# Altium footprint library sinking-clock.PcbLib: 24 footprints (part 1 of 2)
Each footprint in its own frame and in the unit in brackets; x right, y up, seen from the top. Pads: shape width x height; smd on the part's side, far side on the other; paste and mask are expansions set on the pad; w line width, h text height; cw(c..) or ccw(c..) is an arc to the next point about the centre after c.
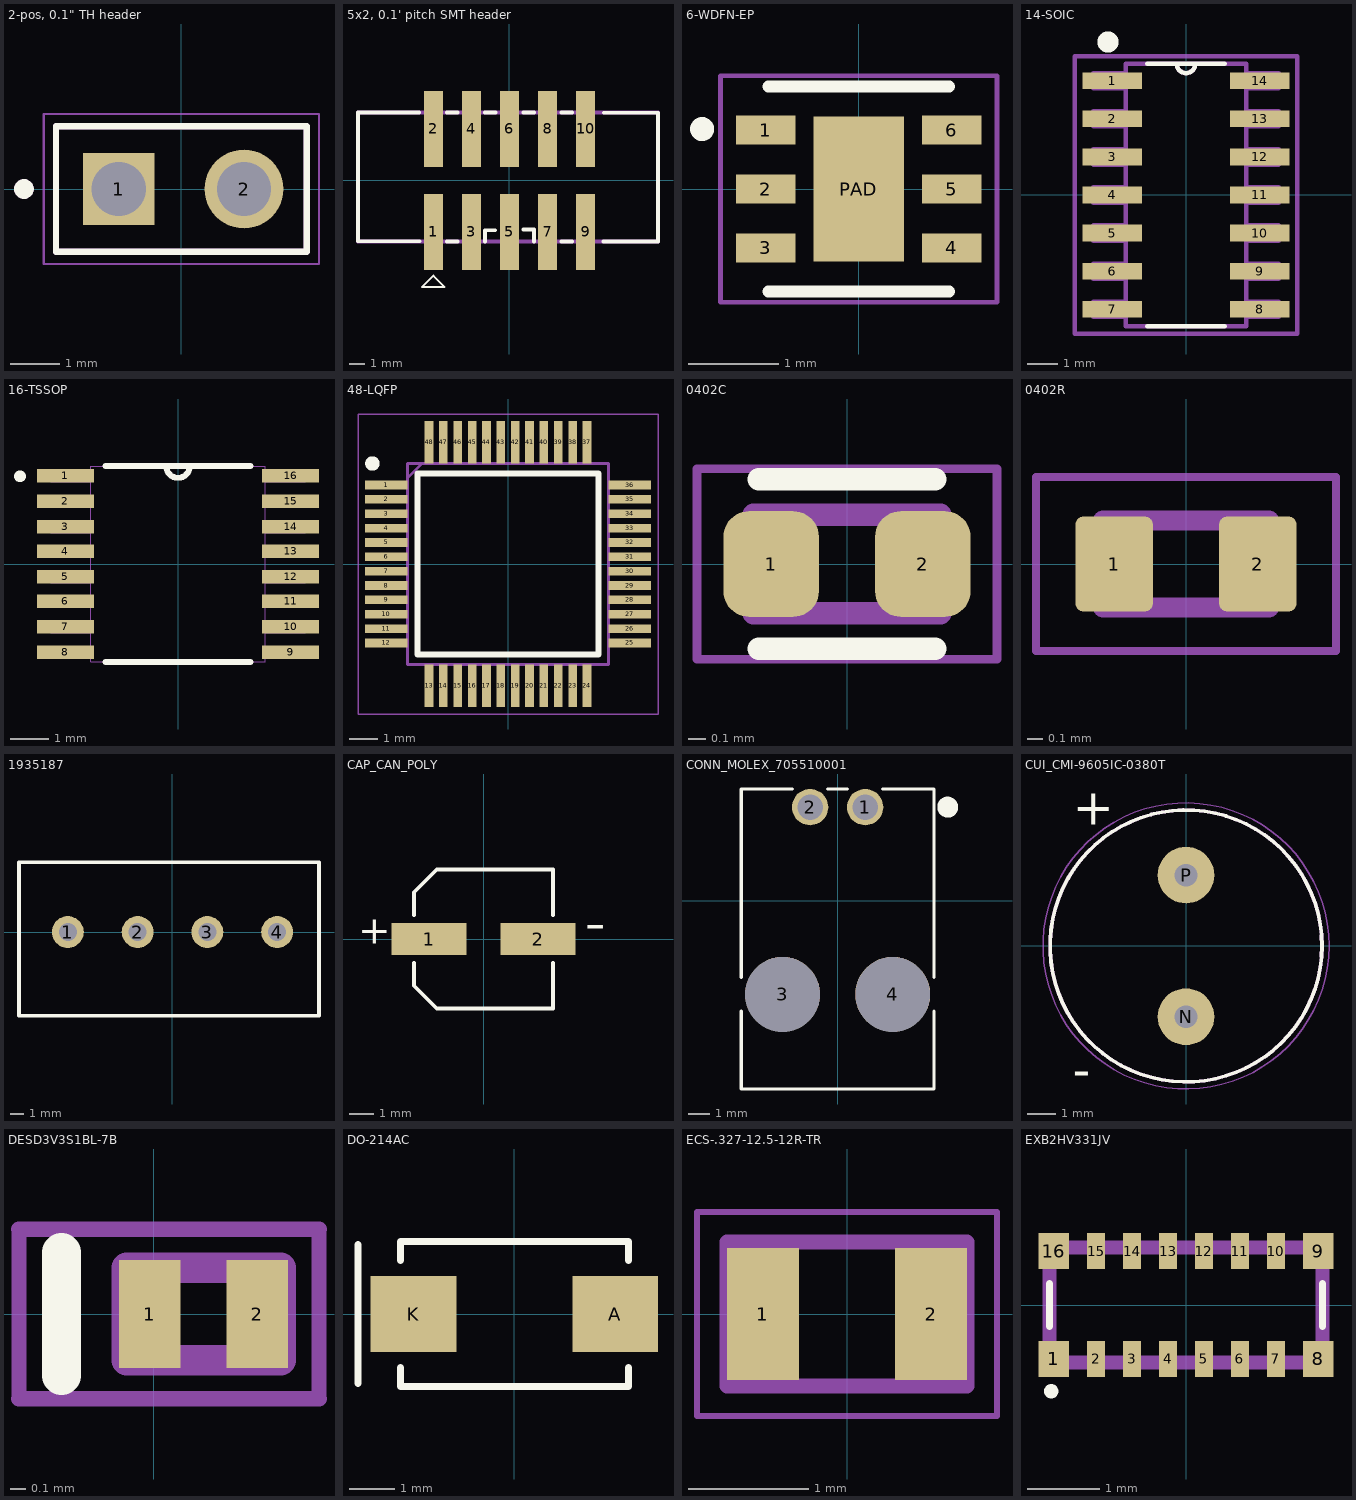
[diagram p0: the footprints below, top view; thin cyan lines are the x and y axes]

## 2-pos, 0.1" TH header [mm]
pads (2):
  rect 1.45x1.45 / inner round 1.45 / far side rect 1.45x1.45 hole 1.1: 1(-1.27,0)
  round 1.6 hole 1.1: 2(1.27,0)
Top Overlay:
  circle w0.2: c-3.19,0 r0.1
  lines w0.127: -2.54,-1.27 -2.54,1.27 2.54,1.27 2.54,-1.27 -2.54,-1.27
Mechanical 13:
  circle w0.2: c-3.19,0 r0.1
  lines w0.127: -2.54,-1.27 -2.54,1.27 2.54,1.27 2.54,-1.27 -2.54,-1.27
Mechanical 15:
  lines w0.05: -2.79,-1.52 -2.79,1.52 2.79,1.52 2.79,-1.52 -2.79,-1.52
3D body "61300211121.stp": height 8.57, standoff -2.97, extent -2.57,-1.26 2.51,1.28

## 5x2, 0.1' pitch SMT header [mil] "CONN HEADER SMD 10POS 2.54MM"
pads (10):
  rect 50x200 smd: 1(-200,-135) 2(-200,135) 3(-100,-135) 4(-100,135) 5(0,-135) 6(0,135) 7(100,-135) 8(100,135) 9(200,-135) 10(200,135)
Top Overlay:
  lines w5: -230,-280 -200,-250 -170,-280 -230,-280
  lines w10: -237,178 -397.64,178 -397.64,-159.53 -236,-159.53 ; -164,-160 -136,-160 ; -164,178 -136,178 ; -64,-160 -64,-131 -38,-131 ; -64,178 -36,178 ; 36,-129 64,-129 64,-160 ; 36,178 64,178 ; 136,-160 164,-160 ; 136,178 164,178 ; 247,-160.28 389.76,-160.28 389.76,177.7 248,177.7
Mechanical 1:
  lines w10: -397.64,-160 389.76,-160 389.76,178 -397.64,178 -397.64,-160
3D body "72454-010LF v2.step": height 495.73, standoff 0.73, extent -396.3,-164.63 393.7,180.37

## 6-WDFN-EP [mm]
pads (7):
  rect 0.66x0.32 smd mask+0.038: 1(-1.025,0.65) 2(-1.025,0) 3(-1.025,-0.65) 4(1.025,-0.65) 5(1.025,0) 6(1.025,0.65)
  rect 1x1.6 smd paste-2 mask+0.038: PAD(0,0)
Top Overlay:
  circle w0.152: c-1.727,0.66 r0.056
  lines w0.127: -1,-1.13 1,-1.13 ; -1,1.13 1,1.13
Top Paste:
  region: 0.316,-0.506 -0.316,-0.506 -0.316,0.506 0.316,0.506
Mechanical 15:
  lines w0.05: -1.524,-1.25 -1.524,1.25 1.524,1.25 1.524,-1.25 -1.524,-1.25
3D body "TVS1400DRVR.step": height 0.8, standoff 0, extent -1,-1 1,1

## 14-SOIC [mil]
pads (14):
  rect 78x22 smd: 1(-97,150) 2(-97,100) 3(-97,50) 4(-97,0) 5(-97,-50) 6(-97,-100) 7(-97,-150) 8(97,-150) 9(97,-100) 10(97,-50) 11(97,0) 12(97,50) 13(97,100) 14(97,150)
Top Overlay:
  circle w20: c-102.36,200.79 r3.94
  lines w6: -51,-172 51,-172 ; -51,172 51,172 ; -12,172 ccw(c0,172) 12,172
Mechanical 13:
  lines w6: -12,172 ccw(c0,172) 12,172 ; -122,-160 -122,-140 -79,-140 -79,-160 -122,-160 ; -122,-110 -122,-90 -79,-90 -79,-110 -122,-110 ; -122,-60 -122,-40 -79,-40 -79,-60 -122,-60 ; -122,-10 -122,10 -79,10 -79,-10 -122,-10 ; -122,40 -122,60 -79,60 -79,40 -122,40 ; -122,90 -122,110 -79,110 -79,90 -122,90 ; -122,140 -122,160 -79,160 -79,140 -122,140 ; -79,-172 79,-172 79,172 -79,172 -79,-172 ; 79,-160 79,-140 122,-140 122,-160 79,-160 ; 79,-110 79,-90 122,-90 122,-110 79,-110 ; 79,-60 79,-40 122,-40 122,-60 79,-60 ; 79,-10 79,10 122,10 122,-10 79,-10 ; 79,40 79,60 122,60 122,40 79,40 ; 79,90 79,110 122,110 122,90 79,90 ; 79,140 79,160 122,160 122,140 79,140
Mechanical 15:
  lines w6: -146,-182 -146,182 ; -146,-182 146,-182 ; -146,-182 -146,182 ; -146,182 146,182 ; -146,182 146,182 ; 146,-182 146,182 ; 146,-182 146,182
3D body "SOIC14_SL_MCH.step": height 68.9, standoff 0, extent -122.05,-171.26 122.05,169.29

## 16-TSSOP [mil]
pads (16):
  rect 58x14 smd: 1(-115,90) 2(-115,64) 3(-115,38) 4(-115,13) 5(-115,-13) 6(-115,-38) 7(-115,-64) 8(-115,-90) 9(115,-90) 10(115,-64) 11(115,-38) 12(115,-13) 13(115,13) 14(115,38) 15(115,64) 16(115,90)
Top Overlay:
  lines w6: -74,-100 74,-100 ; -74,100 -12,100 ; 74,100 12,100 ; -12,100 ccw(c0,100) 12,100 ; -12,100 12,100
  lines w10: -160.43,89.57 cw(c-161.42,89.57) -160.46,89.81
Mechanical 13:
  lines w0: -12,100 ccw(c0,100) 12,100 ; -12,100 -89,100 -89,-100 89,-100 89,100 12,100 ; -12,100 12,100 ; -130,-95 -89,-95 -89,-84 -130,-84 -130,-95 ; -130,-70 -89,-70 -89,-58 -130,-58 -130,-70 ; -130,-44 -89,-44 -89,-32 -130,-32 -130,-44 ; -130,-19 -89,-19 -89,-7 -130,-7 -130,-19 ; -130,7 -89,7 -89,19 -130,19 -130,7 ; -130,32 -89,32 -89,44 -130,44 -130,32 ; -130,58 -89,58 -89,70 -130,70 -130,58 ; -130,84 -89,84 -89,95 -130,95 -130,84 ; 89,-95 130,-95 130,-84 89,-84 89,-95 ; 89,-70 130,-70 130,-58 89,-58 89,-70 ; 89,-44 130,-44 130,-32 89,-32 89,-44 ; 89,-19 130,-19 130,-7 89,-7 89,-19 ; 89,7 130,7 130,19 89,19 89,7 ; 89,32 130,32 130,44 89,44 89,32 ; 89,58 130,58 130,70 89,70 89,58 ; 89,84 130,84 130,95 89,95 89,84
3D body "step_temp.STEP": height 43.31, standoff 0, extent -125.98,-98.43 125.98,98.43

## 48-LQFP [mm]
pads (48):
  rect 1.475x0.3 smd mask+0.03: 1(-4.238,2.75) 2(-4.238,2.25) 3(-4.238,1.75) 4(-4.238,1.25) 5(-4.238,0.75) 6(-4.238,0.25) 7(-4.238,-0.25) 8(-4.238,-0.75) 9(-4.238,-1.25) 10(-4.238,-1.75) 11(-4.238,-2.25) 12(-4.238,-2.75) 25(4.238,-2.75) 26(4.238,-2.25) 27(4.238,-1.75) 28(4.238,-1.25) 29(4.238,-0.75) 30(4.238,-0.25) 31(4.238,0.25) 32(4.238,0.75) 33(4.238,1.25) 34(4.238,1.75) 35(4.238,2.25) 36(4.238,2.75)
  rect 0.3x1.475 smd mask+0.03: 13(-2.75,-4.238) 14(-2.25,-4.238) 15(-1.75,-4.238) 16(-1.25,-4.238) 17(-0.75,-4.238) 18(-0.25,-4.238) 19(0.25,-4.238) 20(0.75,-4.238) 21(1.25,-4.238) 22(1.75,-4.238) 23(2.25,-4.238) 24(2.75,-4.238) 37(2.75,4.238) 38(2.25,4.238) 39(1.75,4.238) 40(1.25,4.238) 41(0.75,4.238) 42(0.25,4.238) 43(-0.25,4.238) 44(-0.75,4.238) 45(-1.25,4.238) 46(-1.75,4.238) 47(-2.25,4.238) 48(-2.75,4.238)
Top Overlay:
  circle w0.25: c-4.725,3.5 r0.125
  lines w0.2: -3.15,-3.15 3.15,-3.15 3.15,3.15 -3.15,3.15 -3.15,-3.15
Mechanical 15:
  lines w0.1: -3.5,3 -3,3.5 ; -3.5,-3.5 3.5,-3.5 3.5,3.5 -3.5,3.5 -3.5,-3.5
Mechanical 20:
  lines w0.05: -5.225,-5.225 5.225,-5.225 5.225,5.225 -5.225,5.225 -5.225,-5.225
3D body "STM32G031C6T6.stp": height 1.6, standoff 0, extent -4.5,-4.5 4.5,4.5

## 0402C [mm] "0402 SMT Capacitor"
pads (2):
  rrect53% 0.54x0.6 smd: 1(-0.43,0) 2(0.43,0)
Top Overlay:
  lines w0.127: -0.5,-0.48 0.5,-0.48 ; -0.5,0.48 0.5,0.48
Mechanical 13:
  lines w0.127: -0.53,-0.28 -0.53,0.28 0.53,0.28 0.53,-0.28 -0.53,-0.28
Mechanical 15:
  lines w0.05: -0.85,-0.54 -0.85,0.54 0.85,0.54 0.85,-0.54 -0.85,-0.54
3D body "C0402.STEP": height 0.5, standoff 0, extent -0.5,-0.254 0.5,0.246

## 0402R [mm] "0402 SMT Resistor"
pads (2):
  rrect20% 0.49x0.6 smd: 1(-0.455,0) 2(0.455,0)
Mechanical 13:
  lines w0.127: -0.525,-0.275 0.525,-0.275 0.525,0.275 -0.525,0.275 -0.525,-0.275
Mechanical 15:
  lines w0.05: -0.95,-0.55 0.95,-0.55 0.95,0.55 -0.95,0.55 -0.95,-0.55
3D body "Resistor 0402.step": height 0.35, standoff 0, extent -0.75,-0.254 0.75,0.246

## 1935187 [mm]
pads (4):
  round 2.286 hole 1.3: 1(-7.5,0) 2(-2.5,0) 3(2.5,0) 4(7.5,0)
Top Overlay:
  lines w0.254: -11,-6 -11,5 10.5,5 10.5,-6 -11,-6
Mechanical 15:
  lines w0.2: -11,-6 -11,5 10.5,5 10.5,-6 -11,-6
Mechanical 20:
  lines w0.1: -11,-6 -11,5 10.5,5 10.5,-6 -11,-6
3D body "1935187.stp": height 11.44, standoff -3.46, extent -10.013,-4.987 10.557,4.013

## CAP_CAN_POLY [mil]
pads (2):
  rect 122x52 smd paste+0 mask+4: 1(-89,0) 2(89,0)
Top Overlay:
  lines w6: -113.5,-39.1 -113.5,-76.3 ; -113.5,39.1 -113.5,76.3 ; -76.49,113.5 -113.5,76.3 ; -76.3,-113.31 -113.5,-76.3 ; 113.5,-39.1 113.5,-113.5 -76.3,-113.5 -113.5,-76.3 ; 113.5,39.1 113.5,113.5 -76.3,113.5 -113.5,76.3
  text "+" at -205,-23.29 h80
  text "-" at 165,-28.11 h120
3D body "CAP_WCAP-ASLI_05p0X05p5_WRE.step": height 219.09, standoff 0, extent -122.01,-108.5 122.01,108.5

## CONN_MOLEX_705510001 [mil]
pads (4):
  round 66 / inner round 60 / far side round 66 hole 46 paste-99999 mask+0: 1(50,170) 2(-50,170)
  round 136 / inner round 60 / far side round 136 hole 136 unplated paste-99999 mask-68: 3(-100,-170) 4(100,-170)
Top Overlay:
  circle w20: c200,170 r9
  lines w6: -175,-200.86 -175,-342 175,-342 175,-200.86 ; -175,-139.14 -175,203 -82.19,203 ; -17.81,203 17.81,203 ; 82.19,203 175,203 175,-139.14
Bottom Overlay:
  circle w20: c200,170 r9
3D body "705510001.stp": height 276, standoff -149, extent -169.95,-338 169.95,197

## CUI_CMI-9605IC-0380T [mm]
height 5
pads (2):
  round 2 hole 0.8: N(0,-2.5) P(0,2.5)
Top Overlay:
  circle w0.127: c0,0 r4.8
  text "+" at -4,4.27 h1.27
  text "-" at -4,-4.99 h1.27
Mechanical 13:
  circle w0.127: c0,0 r4.8
  text "+" at -4,4.27 h1.27
  text "-" at -4,-4.99 h1.27
Mechanical 15:
  circle w0.05: c0,0 r5.05
3D body "AI-1027-TWT-3V-R--3DModel-STEP-1.STEP": height 5.05, standoff -4.5, extent -4.775,-5.818 4.725,4.875

## DESD3V3S1BL-7B [mm]
pads (2):
  rect 0.4x0.7 smd mask+0.076: 1(-0.025,0) 2(0.675,0)
Top Overlay:
  lines w0.254: -0.6,-0.4 -0.6,0.4
Mechanical 13:
  lines w0.2: -0.175,-0.3 -0.175,0.3 0.825,0.3 0.825,-0.3 -0.175,-0.3
Mechanical 15:
  lines w0.1: -0.875,-0.55 -0.875,-0.275 -0.875,0.275 -0.875,0.55 ; 1.075,-0.55 1.075,0.55
  lines w0.102: -0.875,-0.55 1.075,-0.55 ; -0.875,0.55 1.075,0.55
3D body "DESD3V3E1BL-7B.stp": height 0.53, standoff 0, extent -0.177,-0.3 0.823,0.3

## DO-214AC [mil]
pads (2):
  rect 74x66 smd paste+0 mask+0: A(87,0) K(-87,0)
Top Overlay:
  lines w6: -135,-60 -135,60 ; -98.5,-46.1 -98.5,-62.5 98.5,-62.5 98.5,-46.1 ; -98.5,46.1 -98.5,62.5 98.5,62.5 98.5,46.1
3D body "GS1M-LTP.step": height 96.06, standoff 0, extent -102.26,-50.89 102.26,50.89

## ECS-.327-12.5-12R-TR [mm]
pads (2):
  rect 0.6x1.1 smd: 1(-0.7,0) 2(0.7,0)
Mechanical 13:
  lines w0.127: -1,-0.6 1,-0.6 1,0.6 -1,0.6 -1,-0.6
Mechanical 15:
  lines w0.05: -1.25,-0.85 1.25,-0.85 1.25,0.85 -1.25,0.85 -1.25,-0.85
3D body: height 0.6, standoff 0, extent -1,-0.55 1,0.55

## EXB2HV331JV [mm] "330 Res Array"
pads (16):
  rect 0.425x0.5 smd mask+0.07: 1(-1.837,-0.75) 8(1.837,-0.75) 9(1.837,0.75) 16(-1.837,0.75)
  rect 0.25x0.5 smd mask+0.07: 2(-1.25,-0.75) 3(-0.75,-0.75) 4(-0.25,-0.75) 5(0.25,-0.75) 6(0.75,-0.75) 7(1.25,-0.75) 10(1.25,0.75) 11(0.75,0.75) 12(0.25,0.75) 13(-0.25,0.75) 14(-0.75,0.75) 15(-1.25,0.75)
Top Overlay:
  lines w0.1: -1.9,-0.3 -1.9,0.3 ; 1.9,-0.3 1.9,0.3 ; -1.925,-1.2 cw(c-1.875,-1.2) -1.825,-1.2 cw(c-1.875,-1.2) -1.925,-1.2
Mechanical 15:
  lines w0.2: -1.9,-0.8 -1.9,0.8 1.9,0.8 1.9,-0.8 -1.9,-0.8
3D body "EXB-2HV331JV.stp": height 0.65, standoff 0, extent -2.007,-0.975 2.007,0.975